# Altium footprint library Button_Switch_Keyboard.PcbLib: 29 footprints (part 2 of 2)
Each footprint in its own frame and in the unit in brackets; x right, y up, seen from the top. Pads: shape width x height; smd on the part's side, far side on the other; paste and mask are expansions set on the pad; w line width, h text height; cw(c..) or ccw(c..) is an arc to the next point about the centre after c.
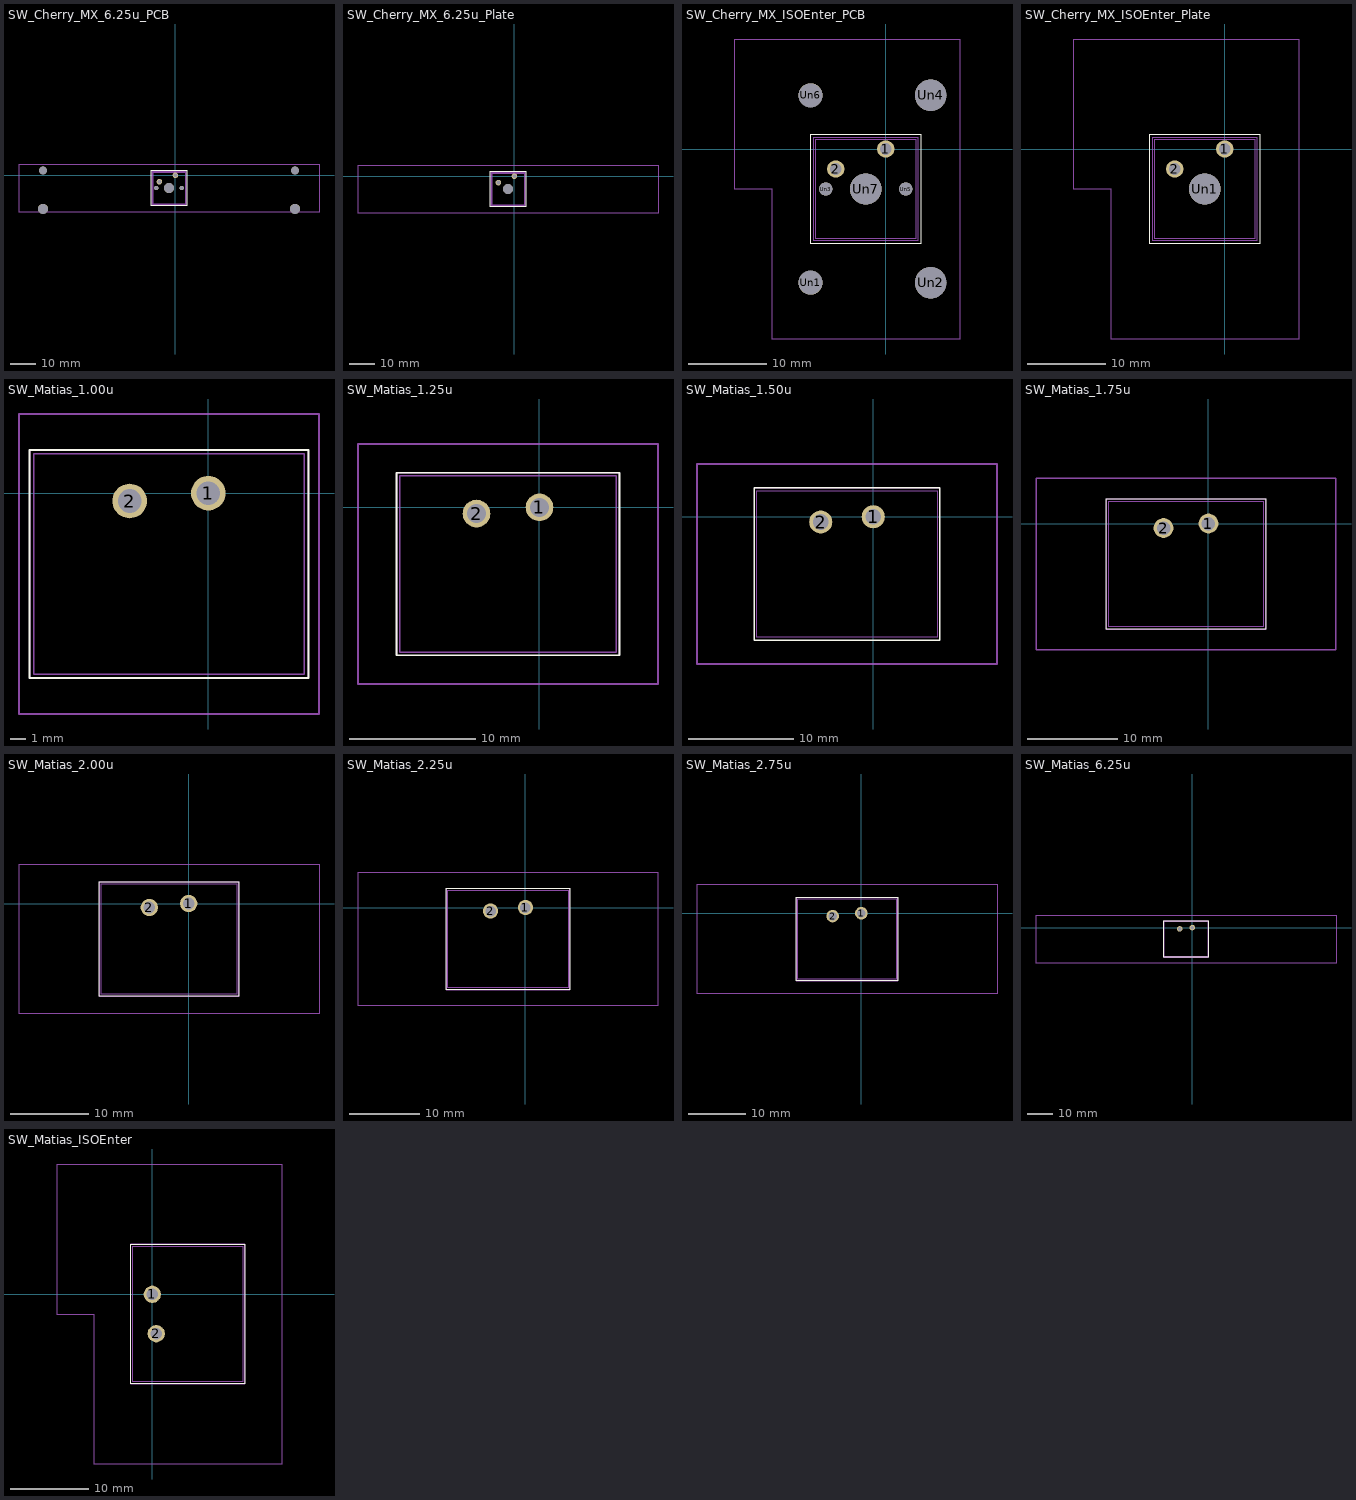
[diagram p1: the footprints below, top view; thin cyan lines are the x and y axes]

## SW_Cherry_MX_6.25u_PCB [mm]
pads (9):
  round 2.2 hole 1.5: 1(0,0) 2(-6.35,-2.54)
  round 4 hole 4: Un1(47.46,-13.32) Un4(-52.54,-13.32) Un6(-2.54,-5.08)
  round 3.05 hole 3.05: Un2(-52.54,1.92) Un5(47.46,1.92)
  round 1.7 hole 1.7: Un3(-7.62,-5.08) Un7(2.54,-5.08)
F.SilkS:
  lines w0.12: -9.525,-12.065 4.445,-12.065 4.445,1.905 -9.525,1.905 -9.525,-12.065
Dwgs.User:
  lines w0.15: -62.071,-14.605 56.991,-14.605 56.991,4.445 -62.071,4.445 -62.071,-14.605
F.CrtYd:
  lines w0.05: -9.14,-11.68 -9.14,1.52 4.06,1.52 4.06,-11.68 -9.14,-11.68
F.Fab:
  lines w0.1: -8.89,-11.43 3.81,-11.43 3.81,1.27 -8.89,1.27 -8.89,-11.43
  text "'.Designator'" at -6.587,1.954 h1

## SW_Cherry_MX_6.25u_Plate [mm]
pads (3):
  round 2.2 hole 1.5: 1(0,0) 2(-6.35,-2.54)
  round 4 hole 4: Un1(-2.54,-5.08)
F.SilkS:
  lines w0.12: -9.525,-12.065 -9.525,1.905 4.445,1.905 4.445,-12.065 -9.525,-12.065
Dwgs.User:
  lines w0.15: -62.071,-14.605 -62.071,4.445 56.991,4.445 56.991,-14.605 -62.071,-14.605
F.CrtYd:
  lines w0.05: -9.14,-11.68 4.06,-11.68 4.06,1.52 -9.14,1.52 -9.14,-11.68
F.Fab:
  lines w0.1: -8.89,-11.43 3.81,-11.43 3.81,1.27 -8.89,1.27 -8.89,-11.43
  text "'.Designator'" at -6.587,1.954 h1

## SW_Cherry_MX_ISOEnter_PCB [mm]
pads (9):
  round 2.2 hole 1.5: 1(0,0) 2(-6.35,-2.54)
  round 3.05 hole 3.05: Un1(-9.54,-16.98) Un6(-9.54,6.82)
  round 4 hole 4: Un2(5.7,-16.98) Un4(5.7,6.82) Un7(-2.54,-5.08)
  round 1.7 hole 1.7: Un3(-7.62,-5.08) Un5(2.54,-5.08)
F.SilkS:
  lines w0.12: -9.525,-12.065 4.445,-12.065 4.445,1.905 -9.525,1.905 -9.525,-12.065
Dwgs.User:
  lines w0.15: -19.209,-5.08 -19.209,13.97 9.366,13.97 9.366,-24.13 -14.446,-24.13 -14.446,-5.08 -19.209,-5.08
F.CrtYd:
  lines w0.05: -9.14,-11.68 4.06,-11.68 4.06,1.52 -9.14,1.52 -9.14,-11.68
F.Fab:
  lines w0.1: -8.89,-11.43 -8.89,1.27 3.81,1.27 3.81,-11.43 -8.89,-11.43
  text "'.Designator'" at -6.587,1.954 h1

## SW_Cherry_MX_ISOEnter_Plate [mm]
pads (3):
  round 2.2 hole 1.5: 1(0,0) 2(-6.35,-2.54)
  round 4 hole 4: Un1(-2.54,-5.08)
F.SilkS:
  lines w0.12: -9.525,-12.065 -9.525,1.905 4.445,1.905 4.445,-12.065 -9.525,-12.065
Dwgs.User:
  lines w0.15: -19.209,-5.08 -19.209,13.97 9.366,13.97 9.366,-24.13 -14.446,-24.13 -14.446,-5.08 -19.209,-5.08
F.CrtYd:
  lines w0.05: -9.14,-11.68 4.06,-11.68 4.06,1.52 -9.14,1.52 -9.14,-11.68
F.Fab:
  lines w0.1: -8.89,-11.43 -8.89,1.27 3.81,1.27 3.81,-11.43 -8.89,-11.43
  text "'.Designator'" at -6.587,1.954 h1

## SW_Matias_1.00u [mm]
pads (2):
  round 2.2 hole 1.5: 1(0,0) 2(-5,-0.5)
F.SilkS:
  lines w0.12: -11.35,-11.75 6.35,-11.75 6.35,2.75 -11.35,2.75 -11.35,-11.75
Dwgs.User:
  lines w0.15: -12.025,-14.025 7.025,-14.025 7.025,5.025 -12.025,5.025 -12.025,-14.025
F.CrtYd:
  lines w0.05: -11.35,-11.75 -11.35,2.75 6.35,2.75 6.35,-11.75 -11.35,-11.75
F.Fab:
  lines w0.1: -11.1,-11.5 -11.1,2.5 6.1,2.5 6.1,-11.5 -11.1,-11.5
  text "'.Designator'" at -6.547,-5.34 h1

## SW_Matias_1.25u [mm]
pads (2):
  round 2.2 hole 1.5: 1(0,0) 2(-5,-0.5)
F.SilkS:
  lines w0.12: -11.35,-11.75 6.35,-11.75 6.35,2.75 -11.35,2.75 -11.35,-11.75
Dwgs.User:
  lines w0.15: -14.406,-14.025 -14.406,5.025 9.406,5.025 9.406,-14.025 -14.406,-14.025
F.CrtYd:
  lines w0.05: -11.35,-11.75 -11.35,2.75 6.35,2.75 6.35,-11.75 -11.35,-11.75
F.Fab:
  lines w0.1: -11.1,-11.5 -11.1,2.5 6.1,2.5 6.1,-11.5 -11.1,-11.5
  text "'.Designator'" at -6.547,-5.34 h1

## SW_Matias_1.50u [mm]
pads (2):
  round 2.2 hole 1.5: 1(0,0) 2(-5,-0.5)
F.SilkS:
  lines w0.12: -11.35,-11.75 6.35,-11.75 6.35,2.75 -11.35,2.75 -11.35,-11.75
Dwgs.User:
  lines w0.15: -16.788,-14.025 -16.788,5.025 11.787,5.025 11.787,-14.025 -16.788,-14.025
F.CrtYd:
  lines w0.05: -11.35,-11.75 -11.35,2.75 6.35,2.75 6.35,-11.75 -11.35,-11.75
F.Fab:
  lines w0.1: -11.1,-11.5 6.1,-11.5 6.1,2.5 -11.1,2.5 -11.1,-11.5
  text "'.Designator'" at -6.547,-5.34 h1

## SW_Matias_1.75u [mm]
pads (2):
  round 2.2 hole 1.5: 1(0,0) 2(-5,-0.5)
F.SilkS:
  lines w0.12: -11.35,-11.75 -11.35,2.75 6.35,2.75 6.35,-11.75 -11.35,-11.75
Dwgs.User:
  lines w0.15: -19.169,-14.025 -19.169,5.025 14.169,5.025 14.169,-14.025 -19.169,-14.025
F.CrtYd:
  lines w0.05: -11.35,-11.75 -11.35,2.75 6.35,2.75 6.35,-11.75 -11.35,-11.75
F.Fab:
  lines w0.1: -11.1,-11.5 -11.1,2.5 6.1,2.5 6.1,-11.5 -11.1,-11.5
  text "'.Designator'" at -6.547,-5.34 h1

## SW_Matias_2.00u [mm]
pads (2):
  round 2.2 hole 1.5: 1(0,0) 2(-5,-0.5)
F.SilkS:
  lines w0.12: -11.35,-11.75 6.35,-11.75 6.35,2.75 -11.35,2.75 -11.35,-11.75
Dwgs.User:
  lines w0.15: -21.55,-14.025 -21.55,5.025 16.55,5.025 16.55,-14.025 -21.55,-14.025
F.CrtYd:
  lines w0.05: -11.35,-11.75 6.35,-11.75 6.35,2.75 -11.35,2.75 -11.35,-11.75
F.Fab:
  lines w0.1: -11.1,-11.5 -11.1,2.5 6.1,2.5 6.1,-11.5 -11.1,-11.5
  text "'.Designator'" at -6.547,-5.34 h1

## SW_Matias_2.25u [mm]
pads (2):
  round 2.2 hole 1.5: 1(0,0) 2(-5,-0.5)
F.SilkS:
  lines w0.12: -11.35,-11.75 6.35,-11.75 6.35,2.75 -11.35,2.75 -11.35,-11.75
Dwgs.User:
  lines w0.15: -23.931,-14.025 18.931,-14.025 18.931,5.025 -23.931,5.025 -23.931,-14.025
F.CrtYd:
  lines w0.05: -11.35,-11.75 6.35,-11.75 6.35,2.75 -11.35,2.75 -11.35,-11.75
F.Fab:
  lines w0.1: -11.1,-11.5 -11.1,2.5 6.1,2.5 6.1,-11.5 -11.1,-11.5
  text "'.Designator'" at -6.547,-5.34 h1

## SW_Matias_2.75u [mm]
pads (2):
  round 2.2 hole 1.5: 1(0,0) 2(-5,-0.5)
F.SilkS:
  lines w0.12: -11.35,-11.75 6.35,-11.75 6.35,2.75 -11.35,2.75 -11.35,-11.75
Dwgs.User:
  lines w0.15: -28.694,-14.025 -28.694,5.025 23.694,5.025 23.694,-14.025 -28.694,-14.025
F.CrtYd:
  lines w0.05: -11.35,-11.75 6.35,-11.75 6.35,2.75 -11.35,2.75 -11.35,-11.75
F.Fab:
  lines w0.1: -11.1,-11.5 -11.1,2.5 6.1,2.5 6.1,-11.5 -11.1,-11.5
  text "'.Designator'" at -6.547,-5.34 h1

## SW_Matias_6.25u [mm]
pads (2):
  round 2.2 hole 1.5: 1(0,0) 2(-5,-0.5)
F.SilkS:
  lines w0.12: -11.35,-11.75 6.35,-11.75 6.35,2.75 -11.35,2.75 -11.35,-11.75
Dwgs.User:
  lines w0.15: -62.031,-14.025 -62.031,5.025 57.031,5.025 57.031,-14.025 -62.031,-14.025
F.CrtYd:
  lines w0.05: -11.35,-11.75 -11.35,2.75 6.35,2.75 6.35,-11.75 -11.35,-11.75
F.Fab:
  lines w0.1: -11.1,-11.5 -11.1,2.5 6.1,2.5 6.1,-11.5 -11.1,-11.5
  text "'.Designator'" at -6.547,-5.34 h1

## SW_Matias_ISOEnter [mm]
pads (2):
  round 2.2 hole 1.5: 1(0,0) 2(0.5,-5)
F.SilkS:
  lines w0.12: -2.75,-11.35 -2.75,6.35 11.75,6.35 11.75,-11.35 -2.75,-11.35
Dwgs.User:
  lines w0.15: -12.169,-2.5 -7.406,-2.5 -7.406,-21.55 16.406,-21.55 16.406,16.55 -12.169,16.55 -12.169,-2.5
F.CrtYd:
  lines w0.05: -2.75,-11.35 -2.75,6.35 11.75,6.35 11.75,-11.35 -2.75,-11.35
F.Fab:
  lines w0.1: -2.5,-11.1 -2.5,6.1 11.5,6.1 11.5,-11.1 -2.5,-11.1
  text "'.Designator'" at 0.453,-3.34 h1